# Altium schematic symbol library TPS54KC23RZRR.SchLib: 2 symbols
Pins are listed as number, name and electrical type; pins without a type are passive.

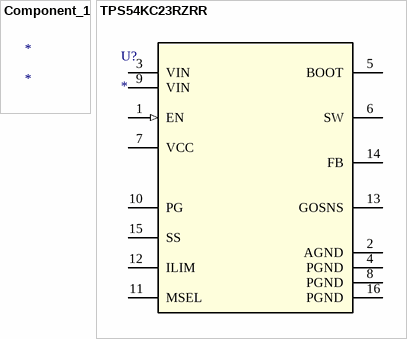
[diagram p0: symbols Component_1 to TPS54KC23RZRR]

## Component_1
designator *

## TPS54KC23RZRR
designator U?
No Description Available; Mfr_Name: Texas Instruments; TYPE: TYPE; RefDes: RefDes
footprint RZR0016A-MFG
pins: 1 EN (in), 2 AGND (power), 3 VIN (power), 4 PGND (power), 5 BOOT, 6 SW, 7 VCC (power), 8 PGND (power), 9 VIN (power), 10 PG (oc), 11 MSEL, 12 ILIM, 13 GOSNS, 14 FB, 15 SS, 16 PGND (power)